# Altium integrated library Diode.IntLib: 2 symbols
Pins are listed as number, name and electrical type; pins without a type are passive.

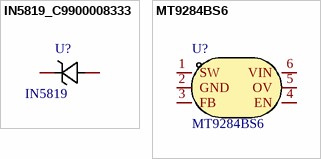
[diagram p0: symbols IN5819_C9900008333 to MT9284BS6]

## IN5819_C9900008333
designator U?, comment IN5819
Symbol: IN5819_C9900008333; Add into BOM: yes; Device: IN5819_C9900008333; LCSC Part Name: IN5819; Supplier Part: C9900008333; Manufacturer Part: IN5819; Supplier Footprint: SOD-123; JLCPCB Part Class: Extended Part; Datasheet: 2022-02-22/1057990A/4429c1d65b7a49e5802160175a31e70c/SOD123IN58191A.pdf; Supplier: LCSC; Convert to PCB: yes; Name: IN5819
footprint SOD-123_L2.7-W1.7-LS3.8-RD
pins: 1 K, 2 A

## MT9284BS6
designator U?
Manufacturer: 西安航天民芯; Add into BOM: yes; Symbol: MT9284BS6; Device: MT9284BS6; LCSC Part Name: MT9284BS6; Supplier Part: C181740; Manufacturer Part: MT9284BS6; Supplier Footprint: SOT-23-6; JLCPCB Part Class: Extended Part; Datasheet: https://atta.szlcsc.com/upload/public/pdf/source/20180228/C181740_15198093817741379334.pdf; Supplier: LCSC; Convert to PCB: yes; Name: MT9284BS6
footprint SOT-23-6_L2.9-W1.6-P0.95-LS2.8-BR
pins: 1 SW, 2 GND, 3 FB, 4 EN, 5 OV, 6 VIN